# Altium schematic symbol library SCH - MCU - STM32 - ST MICROELECTRONICS STM32F437AIHX UFBGA169.SchLib: 1 symbol
Pins are listed as number, name and electrical type; pins without a type are passive.

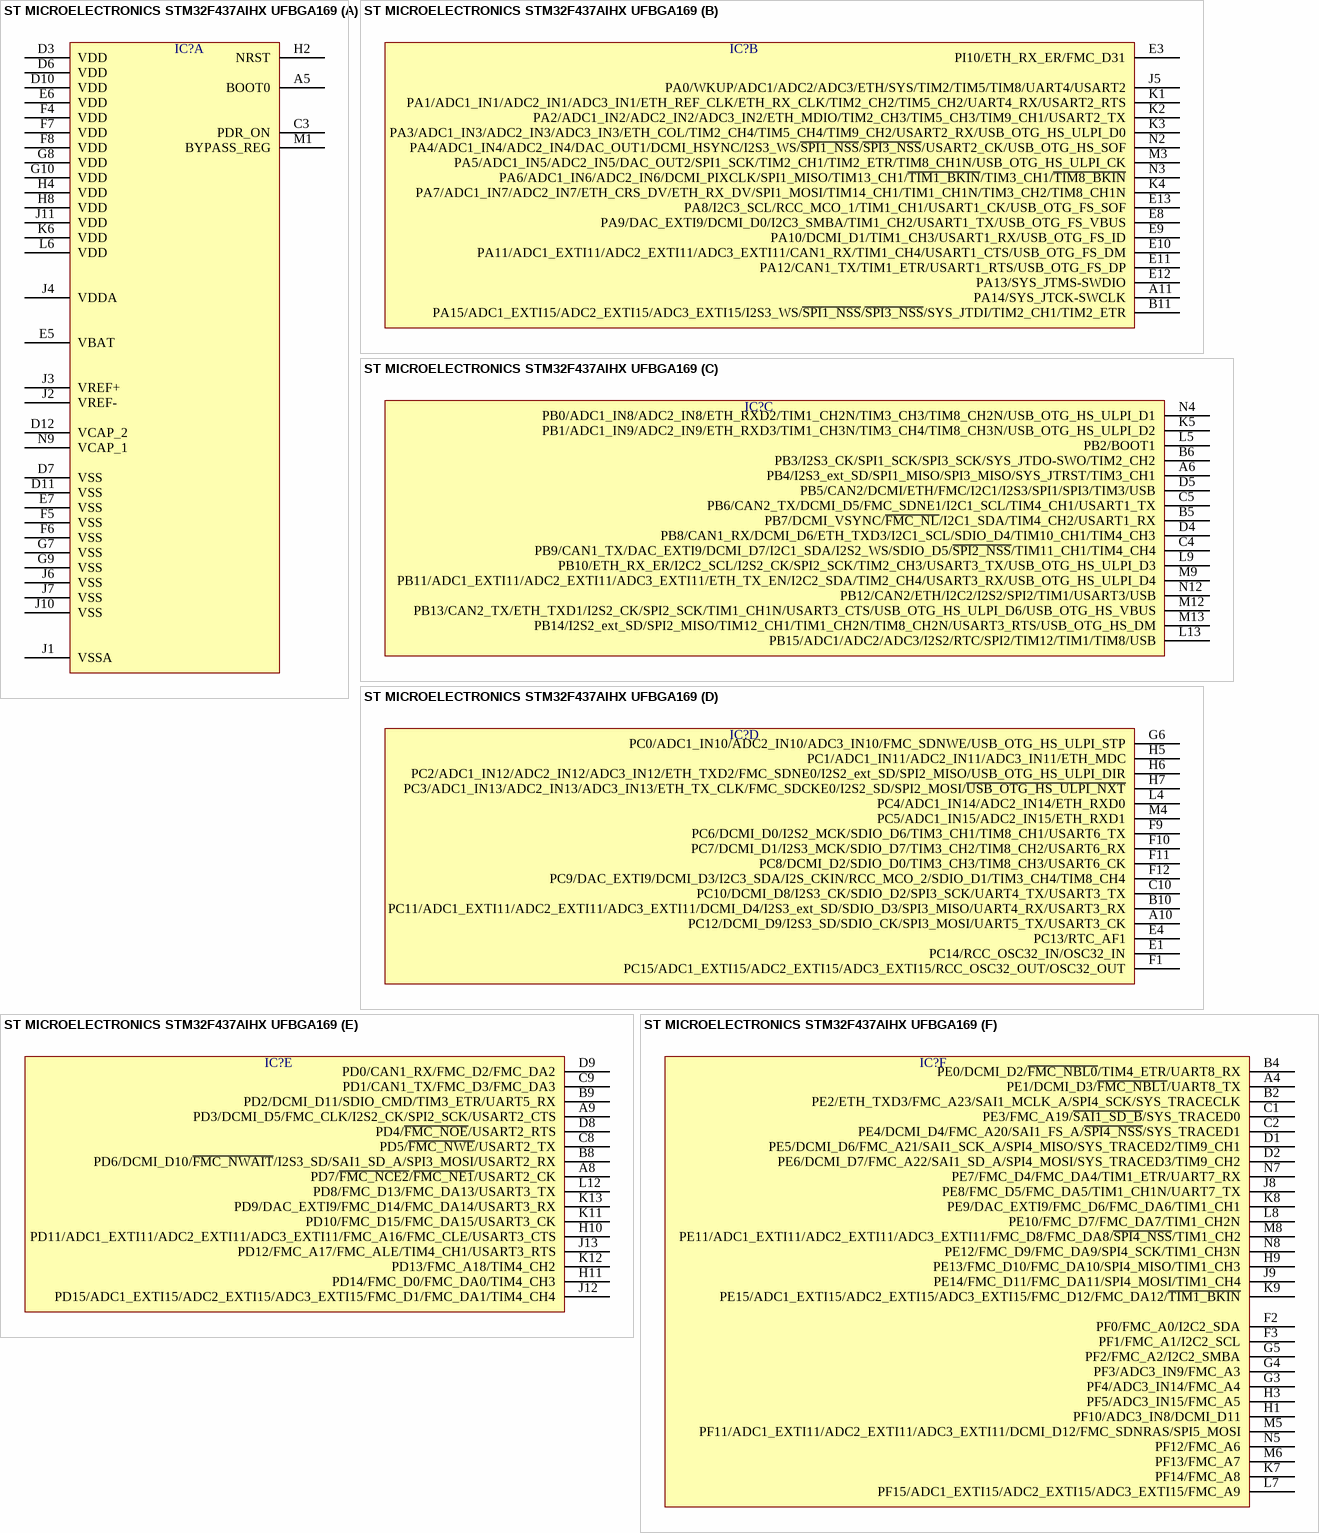
[diagram p0: symbol ST MICROELECTRONICS STM32F437AIHX UFBGA169]

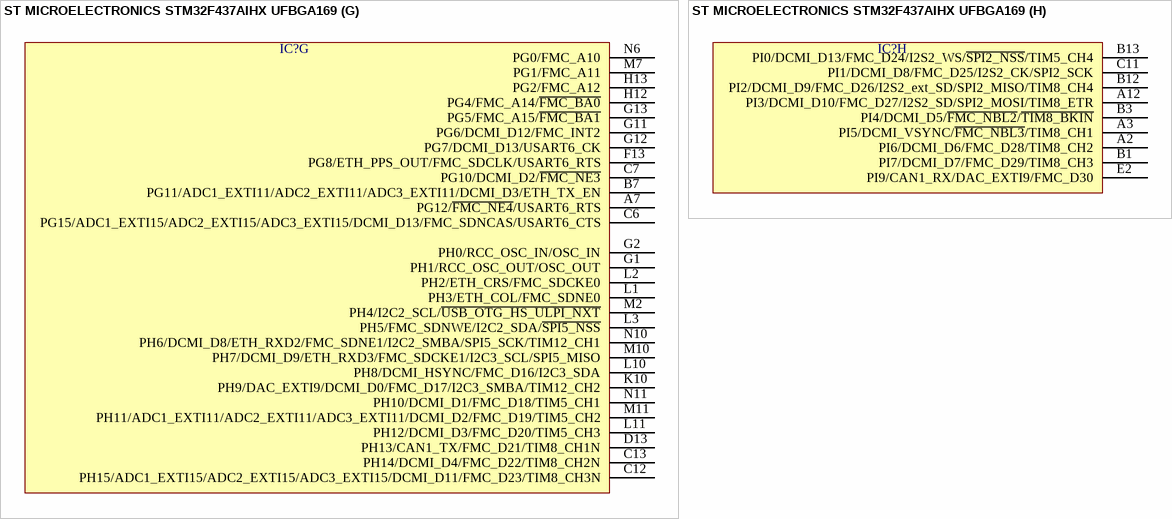
[diagram p1: symbol ST MICROELECTRONICS STM32F437AIHX UFBGA169]

## ST MICROELECTRONICS STM32F437AIHX UFBGA169
designator IC?  (value not drawn)
part A pins: A5 BOOT0, C3 PDR_ON, D3 VDD, D6 VDD, D7 VSS, D10 VDD, D11 VSS, D12 VCAP_2, E5 VBAT, E6 VDD, E7 VSS, F4 VDD, F5 VSS, F6 VSS, F7 VDD, F8 VDD, G7 VSS, G8 VDD, G9 VSS, G10 VDD, H2 NRST, H4 VDD, H8 VDD, J1 VSSA, J2 VREF-, J3 VREF+, J4 VDDA, J6 VSS, J7 VSS, J10 VSS, J11 VDD, K6 VDD, L6 VDD, M1 BYPASS_REG, N9 VCAP_1
part B pins: A11 PA14/SYS_JTCK-SWCLK, B11 PA15/ADC1_EXTI15/ADC2_EXTI15/ADC3_EXTI15/I2S3_WS/~{SPI1_NSS}/~{SPI3_NSS}/SYS_JTDI/TIM2_CH1/TIM2_ETR, E3 PI10/ETH_RX_ER/FMC_D31, E8 PA9/DAC_EXTI9/DCMI_D0/I2C3_SMBA/TIM1_CH2/USART1_TX/USB_OTG_FS_VBUS, E9 PA10/DCMI_D1/TIM1_CH3/USART1_RX/USB_OTG_FS_ID, E10 PA11/ADC1_EXTI11/ADC2_EXTI11/ADC3_EXTI11/CAN1_RX/TIM1_CH4/USART1_CTS/USB_OTG_FS_DM, E11 PA12/CAN1_TX/TIM1_ETR/USART1_RTS/USB_OTG_FS_DP, E12 PA13/SYS_JTMS-SWDIO, E13 PA8/I2C3_SCL/RCC_MCO_1/TIM1_CH1/USART1_CK/USB_OTG_FS_SOF, J5 PA0/WKUP/ADC1/ADC2/ADC3/ETH/SYS/TIM2/TIM5/TIM8/UART4/USART2, K1 PA1/ADC1_IN1/ADC2_IN1/ADC3_IN1/ETH_REF_CLK/ETH_RX_CLK/TIM2_CH2/TIM5_CH2/UART4_RX/USART2_RTS, K2 PA2/ADC1_IN2/ADC2_IN2/ADC3_IN2/ETH_MDIO/TIM2_CH3/TIM5_CH3/TIM9_CH1/USART2_TX, K3 PA3/ADC1_IN3/ADC2_IN3/ADC3_IN3/ETH_COL/TIM2_CH4/TIM5_CH4/TIM9_CH2/USART2_RX/USB_OTG_HS_ULPI_D0, K4 PA7/ADC1_IN7/ADC2_IN7/ETH_CRS_DV/ETH_RX_DV/SPI1_MOSI/TIM14_CH1/TIM1_CH1N/TIM3_CH2/TIM8_CH1N, M3 PA5/ADC1_IN5/ADC2_IN5/DAC_OUT2/SPI1_SCK/TIM2_CH1/TIM2_ETR/TIM8_CH1N/USB_OTG_HS_ULPI_CK, N2 PA4/ADC1_IN4/ADC2_IN4/DAC_OUT1/DCMI_HSYNC/I2S3_WS/~{SPI1_NSS}/~{SPI3_NSS}/USART2_CK/USB_OTG_HS_SOF, N3 PA6/ADC1_IN6/ADC2_IN6/DCMI_PIXCLK/SPI1_MISO/TIM13_CH1/~{TIM1_BKIN}/TIM3_CH1/~{TIM8_BKIN}
part C pins: A6 PB4/I2S3_ext_SD/SPI1_MISO/SPI3_MISO/SYS_JTRST/TIM3_CH1, B5 PB7/DCMI_VSYNC/~{FMC_NL}/I2C1_SDA/TIM4_CH2/USART1_RX, B6 PB3/I2S3_CK/SPI1_SCK/SPI3_SCK/SYS_JTDO-SWO/TIM2_CH2, C4 PB9/CAN1_TX/DAC_EXTI9/DCMI_D7/I2C1_SDA/I2S2_WS/SDIO_D5/~{SPI2_NSS}/TIM11_CH1/TIM4_CH4, C5 PB6/CAN2_TX/DCMI_D5/FMC_SDNE1/I2C1_SCL/TIM4_CH1/USART1_TX, D4 PB8/CAN1_RX/DCMI_D6/ETH_TXD3/I2C1_SCL/SDIO_D4/TIM10_CH1/TIM4_CH3, D5 PB5/CAN2/DCMI/ETH/FMC/I2C1/I2S3/SPI1/SPI3/TIM3/USB, K5 PB1/ADC1_IN9/ADC2_IN9/ETH_RXD3/TIM1_CH3N/TIM3_CH4/TIM8_CH3N/USB_OTG_HS_ULPI_D2, L5 PB2/BOOT1, L9 PB10/ETH_RX_ER/I2C2_SCL/I2S2_CK/SPI2_SCK/TIM2_CH3/USART3_TX/USB_OTG_HS_ULPI_D3, L13 PB15/ADC1/ADC2/ADC3/I2S2/RTC/SPI2/TIM12/TIM1/TIM8/USB, M9 PB11/ADC1_EXTI11/ADC2_EXTI11/ADC3_EXTI11/ETH_TX_EN/I2C2_SDA/TIM2_CH4/USART3_RX/USB_OTG_HS_ULPI_D4, M12 PB13/CAN2_TX/ETH_TXD1/I2S2_CK/SPI2_SCK/TIM1_CH1N/USART3_CTS/USB_OTG_HS_ULPI_D6/USB_OTG_HS_VBUS, M13 PB14/I2S2_ext_SD/SPI2_MISO/TIM12_CH1/TIM1_CH2N/TIM8_CH2N/USART3_RTS/USB_OTG_HS_DM, N4 PB0/ADC1_IN8/ADC2_IN8/ETH_RXD2/TIM1_CH2N/TIM3_CH3/TIM8_CH2N/USB_OTG_HS_ULPI_D1, N12 PB12/CAN2/ETH/I2C2/I2S2/SPI2/TIM1/USART3/USB
part D pins: A10 PC12/DCMI_D9/I2S3_SD/SDIO_CK/SPI3_MOSI/UART5_TX/USART3_CK, B10 PC11/ADC1_EXTI11/ADC2_EXTI11/ADC3_EXTI11/DCMI_D4/I2S3_ext_SD/SDIO_D3/SPI3_MISO/UART4_RX/USART3_RX, C10 PC10/DCMI_D8/I2S3_CK/SDIO_D2/SPI3_SCK/UART4_TX/USART3_TX, E1 PC14/RCC_OSC32_IN/OSC32_IN, E4 PC13/RTC_AF1, F1 PC15/ADC1_EXTI15/ADC2_EXTI15/ADC3_EXTI15/RCC_OSC32_OUT/OSC32_OUT, F9 PC6/DCMI_D0/I2S2_MCK/SDIO_D6/TIM3_CH1/TIM8_CH1/USART6_TX, F10 PC7/DCMI_D1/I2S3_MCK/SDIO_D7/TIM3_CH2/TIM8_CH2/USART6_RX, F11 PC8/DCMI_D2/SDIO_D0/TIM3_CH3/TIM8_CH3/USART6_CK, F12 PC9/DAC_EXTI9/DCMI_D3/I2C3_SDA/I2S_CKIN/RCC_MCO_2/SDIO_D1/TIM3_CH4/TIM8_CH4, G6 PC0/ADC1_IN10/ADC2_IN10/ADC3_IN10/FMC_SDNWE/USB_OTG_HS_ULPI_STP, H5 PC1/ADC1_IN11/ADC2_IN11/ADC3_IN11/ETH_MDC, H6 PC2/ADC1_IN12/ADC2_IN12/ADC3_IN12/ETH_TXD2/FMC_SDNE0/I2S2_ext_SD/SPI2_MISO/USB_OTG_HS_ULPI_DIR, H7 PC3/ADC1_IN13/ADC2_IN13/ADC3_IN13/ETH_TX_CLK/FMC_SDCKE0/I2S2_SD/SPI2_MOSI/~{USB_OTG_HS_ULPI_NXT}, L4 PC4/ADC1_IN14/ADC2_IN14/ETH_RXD0, M4 PC5/ADC1_IN15/ADC2_IN15/ETH_RXD1
part E pins: A8 PD7/~{FMC_NCE2}/~{FMC_NE1}/USART2_CK, A9 PD3/DCMI_D5/FMC_CLK/I2S2_CK/SPI2_SCK/USART2_CTS, B8 PD6/DCMI_D10/~{FMC_NWAIT}/I2S3_SD/SAI1_SD_A/SPI3_MOSI/USART2_RX, B9 PD2/DCMI_D11/SDIO_CMD/TIM3_ETR/UART5_RX, C8 PD5/~{FMC_NWE}/USART2_TX, C9 PD1/CAN1_TX/FMC_D3/FMC_DA3, D8 PD4/~{FMC_NOE}/USART2_RTS, D9 PD0/CAN1_RX/FMC_D2/FMC_DA2, H10 PD11/ADC1_EXTI11/ADC2_EXTI11/ADC3_EXTI11/FMC_A16/FMC_CLE/USART3_CTS, H11 PD14/FMC_D0/FMC_DA0/TIM4_CH3, J12 PD15/ADC1_EXTI15/ADC2_EXTI15/ADC3_EXTI15/FMC_D1/FMC_DA1/TIM4_CH4, J13 PD12/FMC_A17/FMC_ALE/TIM4_CH1/USART3_RTS, K11 PD10/FMC_D15/FMC_DA15/USART3_CK, K12 PD13/FMC_A18/TIM4_CH2, K13 PD9/DAC_EXTI9/FMC_D14/FMC_DA14/USART3_RX, L12 PD8/FMC_D13/FMC_DA13/USART3_TX
part F pins: A4 PE1/DCMI_D3/~{FMC_NBL1}/UART8_TX, B2 PE2/ETH_TXD3/FMC_A23/SAI1_MCLK_A/SPI4_SCK/SYS_TRACECLK, B4 PE0/DCMI_D2/~{FMC_NBL0}/TIM4_ETR/UART8_RX, C1 PE3/FMC_A19/~{SAI1_SD_B}/SYS_TRACED0, C2 PE4/DCMI_D4/FMC_A20/SAI1_FS_A/~{SPI4_NSS}/SYS_TRACED1, D1 PE5/DCMI_D6/FMC_A21/SAI1_SCK_A/SPI4_MISO/SYS_TRACED2/TIM9_CH1, D2 PE6/DCMI_D7/FMC_A22/SAI1_SD_A/SPI4_MOSI/SYS_TRACED3/TIM9_CH2, F2 PF0/FMC_A0/I2C2_SDA, F3 PF1/FMC_A1/I2C2_SCL, G3 PF4/ADC3_IN14/FMC_A4, G4 PF3/ADC3_IN9/FMC_A3, G5 PF2/FMC_A2/I2C2_SMBA, H1 PF10/ADC3_IN8/DCMI_D11, H3 PF5/ADC3_IN15/FMC_A5, H9 PE13/FMC_D10/FMC_DA10/SPI4_MISO/TIM1_CH3, J8 PE8/FMC_D5/FMC_DA5/TIM1_CH1N/UART7_TX, J9 PE14/FMC_D11/FMC_DA11/SPI4_MOSI/TIM1_CH4, K7 PF14/FMC_A8, K8 PE9/DAC_EXTI9/FMC_D6/FMC_DA6/TIM1_CH1, K9 PE15/ADC1_EXTI15/ADC2_EXTI15/ADC3_EXTI15/FMC_D12/FMC_DA12/~{TIM1_BKIN}, L7 PF15/ADC1_EXTI15/ADC2_EXTI15/ADC3_EXTI15/FMC_A9, L8 PE10/FMC_D7/FMC_DA7/TIM1_CH2N, M5 PF11/ADC1_EXTI11/ADC2_EXTI11/ADC3_EXTI11/DCMI_D12/FMC_SDNRAS/SPI5_MOSI, M6 PF13/FMC_A7, M8 PE11/ADC1_EXTI11/ADC2_EXTI11/ADC3_EXTI11/FMC_D8/FMC_DA8/~{SPI4_NSS}/TIM1_CH2, N5 PF12/FMC_A6, N7 PE7/FMC_D4/FMC_DA4/TIM1_ETR/UART7_RX, N8 PE12/FMC_D9/FMC_DA9/SPI4_SCK/TIM1_CH3N
part G pins: A7 PG12/~{FMC_NE4}/USART6_RTS, B7 PG11/ADC1_EXTI11/ADC2_EXTI11/ADC3_EXTI11/DCMI_D3/ETH_TX_EN, C6 PG15/ADC1_EXTI15/ADC2_EXTI15/ADC3_EXTI15/DCMI_D13/FMC_SDNCAS/USART6_CTS, C7 PG10/DCMI_D2/~{FMC_NE3}, C12 PH15/ADC1_EXTI15/ADC2_EXTI15/ADC3_EXTI15/DCMI_D11/FMC_D23/TIM8_CH3N, C13 PH14/DCMI_D4/FMC_D22/TIM8_CH2N, D13 PH13/CAN1_TX/FMC_D21/TIM8_CH1N, F13 PG8/ETH_PPS_OUT/FMC_SDCLK/USART6_RTS, G1 PH1/RCC_OSC_OUT/OSC_OUT, G2 PH0/RCC_OSC_IN/OSC_IN, G11 PG6/DCMI_D12/FMC_INT2, G12 PG7/DCMI_D13/USART6_CK, G13 PG5/FMC_A15/~{FMC_BA1}, H12 PG4/FMC_A14/~{FMC_BA0}, H13 PG2/FMC_A12, K10 PH9/DAC_EXTI9/DCMI_D0/FMC_D17/I2C3_SMBA/TIM12_CH2, L1 PH3/ETH_COL/FMC_SDNE0, L2 PH2/ETH_CRS/FMC_SDCKE0, L3 PH5/FMC_SDNWE/I2C2_SDA/~{SPI5_NSS}, L10 PH8/DCMI_HSYNC/FMC_D16/I2C3_SDA, L11 PH12/DCMI_D3/FMC_D20/TIM5_CH3, M2 PH4/I2C2_SCL/~{USB_OTG_HS_ULPI_NXT}, M7 PG1/FMC_A11, M10 PH7/DCMI_D9/ETH_RXD3/FMC_SDCKE1/I2C3_SCL/SPI5_MISO, M11 PH11/ADC1_EXTI11/ADC2_EXTI11/ADC3_EXTI11/DCMI_D2/FMC_D19/TIM5_CH2, N6 PG0/FMC_A10, N10 PH6/DCMI_D8/ETH_RXD2/FMC_SDNE1/I2C2_SMBA/SPI5_SCK/TIM12_CH1, N11 PH10/DCMI_D1/FMC_D18/TIM5_CH1
part H pins: A2 PI6/DCMI_D6/FMC_D28/TIM8_CH2, A3 PI5/DCMI_VSYNC/~{FMC_NBL3}/TIM8_CH1, A12 PI3/DCMI_D10/FMC_D27/I2S2_SD/SPI2_MOSI/TIM8_ETR, B1 PI7/DCMI_D7/FMC_D29/TIM8_CH3, B3 PI4/DCMI_D5/~{FMC_NBL2}/~{TIM8_BKIN}, B12 PI2/DCMI_D9/FMC_D26/I2S2_ext_SD/SPI2_MISO/TIM8_CH4, B13 PI0/DCMI_D13/FMC_D24/I2S2_WS/~{SPI2_NSS}/TIM5_CH4, C11 PI1/DCMI_D8/FMC_D25/I2S2_CK/SPI2_SCK, E2 PI9/CAN1_RX/DAC_EXTI9/FMC_D30